# Altium footprint library CONN-TH_2P-P5.00_WJ500V-5.08-2P.PcbLib: 1 footprints
Each footprint in its own frame and in the unit in brackets; x right, y up, seen from the top. Pads: shape width x height; smd on the part's side, far side on the other; paste and mask are expansions set on the pad; w line width, h text height; cw(c..) or ccw(c..) is an arc to the next point about the centre after c.
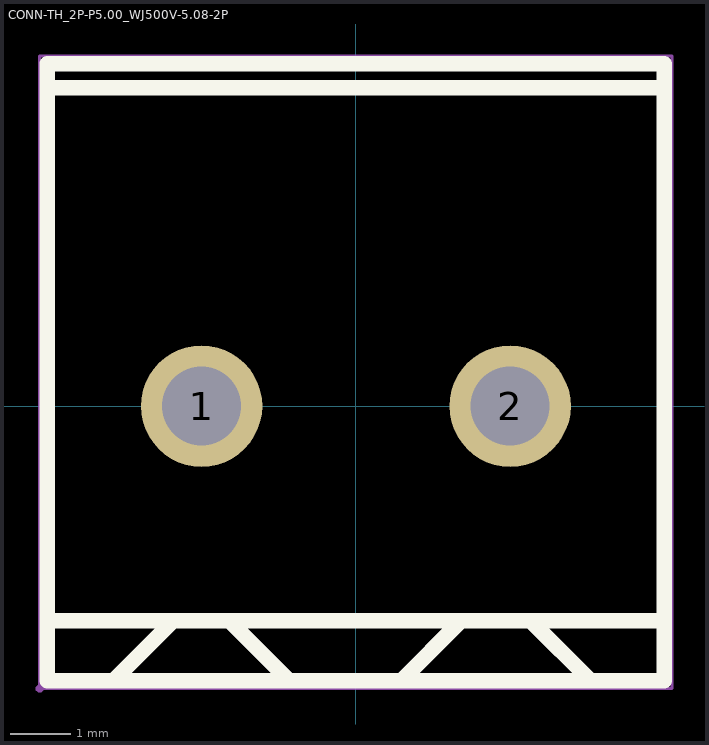
[diagram p0: the footprint, top view; thin cyan lines are the x and y axes]

## CONN-TH_2P-P5.00_WJ500V-5.08-2P [mm]
pads (2):
  round 2 hole 1.3 paste+0 mask+0.051: 1(-2.54,0) 2(2.54,0)
Top Overlay:
  lines w0.254: -5.08,-4.52 -5.08,5.64 ; -5.065,5.243 5.08,5.243 ; -5.054,-4.522 5.08,-4.522 5.08,5.638 -5.054,5.638 ; -5.036,-3.531 5.08,-3.531 ; -3.97,-4.5 -3.01,-3.54 ; -2.08,-3.54 -1.12,-4.5 ; 0.75,-4.518 1.71,-3.558 ; 2.9,-3.558 3.86,-4.518
Mechanical 15:
  region: -1.99,0 -1.99,0.109 -2.074,0.312 -2.228,0.466 -2.431,0.55 -2.649,0.55 -2.852,0.466 -3.006,0.312 -3.09,0.109 -3.09,0 -3.09,-0.109 -3.006,-0.312 -2.852,-0.466 -2.649,-0.55 -2.431,-0.55 -2.228,-0.466 -2.074,-0.312 -1.99,-0.109 -1.99,0
  region: 3.09,0 3.09,0.109 3.006,0.312 2.852,0.466 2.649,0.55 2.431,0.55 2.228,0.466 2.074,0.312 1.99,0.109 1.99,0 1.99,-0.109 2.074,-0.312 2.228,-0.466 2.431,-0.55 2.649,-0.55 2.852,-0.466 3.006,-0.312 3.09,-0.109 3.09,0
  region: -5.147,-4.649 -5.147,-4.625 -5.182,-4.59 -5.232,-4.59 -5.267,-4.625 -5.267,-4.649 -5.267,-4.674 -5.232,-4.709 -5.182,-4.709 -5.147,-4.674 -5.147,-4.649
  lines w0.051: -5.207,-4.649 -5.207,5.767 5.207,5.767 5.207,-4.649 -5.207,-4.649